# Altium schematic symbol library ADG5412BRUZ-ND.SchLib: 1 symbol
Pins are listed as number, name and electrical type; pins without a type are passive.

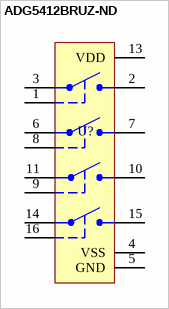
[diagram p0: symbol ADG5412BRUZ-ND]

## ADG5412BRUZ-ND
designator U?
High Voltage Latch-Up Proof Quad SPST Switch
pins: 1 IN1, 2 D1, 3 S1, 4 VSS, 5 GND, 6 S4, 7 D4, 8 IN4, 9 IN3, 10 D3, 11 S3, 13 VDD, 14 S2, 15 D2, 16 IN2